# Altium footprint library NJVMJD41CT4G.PcbLib: 3 footprints
Each footprint in its own frame and in the unit in brackets; x right, y up, seen from the top. Pads: shape width x height; smd on the part's side, far side on the other; paste and mask are expansions set on the pad; w line width, h text height; cw(c..) or ccw(c..) is an arc to the next point about the centre after c.
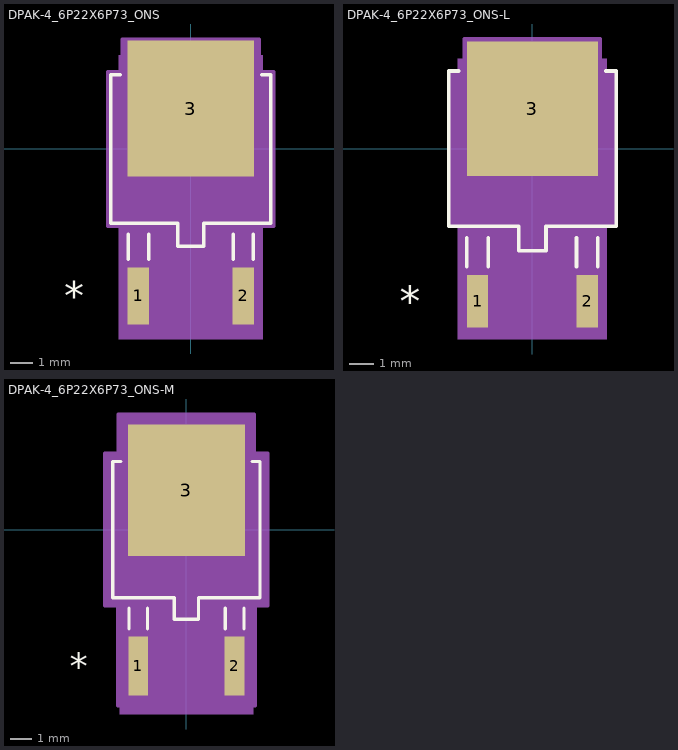
[diagram p0: the footprints below, top view; thin cyan lines are the x and y axes]

## DPAK-4_6P22X6P73_ONS [mil]
pads (3):
  rect 37x98 smd paste+0 mask+0: 1(-90,-252.5) 2(90,-252.5)
  rect 217x233 smd paste+0 mask+0: 3(0,69.5)
Top Overlay:
  lines w6: -121.6,127.5 -137.5,127.5 -137.5,-127.5 -22.5,-127.5 -22.5,-167.5 22.5,-167.5 22.5,-127.5 137.5,-127.5 137.5,127.5 121.6,127.5 ; -107.5,-189.5 -107.5,-146.5 ; -72.5,-189.5 -72.5,-146.5 ; 72.5,-189.5 72.5,-146.5 ; 107.5,-189.5 107.5,-146.5
  text "*" at -217.5,-277.5 h50
Mechanical 5:
  region: -123.5,161.5 123.5,161.5 123.5,-326.5 -123.5,-326.5
Mechanical 13:
  lines w1: -132.5,-122.5 132.5,-122.5 132.5,122.5 -132.5,122.5 -132.5,-122.5 ; -107.5,-287.5 -107.5,-122.5 -72.5,-122.5 -72.5,-287.5 -107.5,-287.5 ; -17.5,-162.5 -17.5,-122.5 17.5,-122.5 17.5,-162.5 -17.5,-162.5 ; 72.5,-287.5 72.5,-122.5 107.5,-122.5 107.5,-287.5 72.5,-287.5
  text "*" at -102.5,-137.5 h50
Mechanical 15:
  region: -142.5,-132.5 -142.5,132.5 -117.5,132.5 -117.5,189 117.5,189 117.5,132.5 142.5,132.5 142.5,-132.5 110,-132.5 110,-311.5 -110,-311.5 -110,-132.5
  lines w6: -142.5,-132.5 -142.5,132.5 -117.5,132.5 -117.5,189 117.5,189 117.5,132.5 142.5,132.5 142.5,-132.5 110,-132.5 110,-311.5 -110,-311.5 -110,-132.5 -142.5,-132.5
3D body "DPAK-4_6P22X6P73_ONS.step": height 94.09, standoff -2.01, extent -132.52,-287.52 132.52,165

## DPAK-4_6P22X6P73_ONS-L [mil]
pads (3):
  rect 35x86 smd paste+0 mask+0: 1(-90,-250.5) 2(90,-250.5)
  rect 215x221 smd paste+0 mask+0: 3(0,65.5)
Top Overlay:
  lines w6: -120.6,127.5 -137.5,127.5 -137.5,-127.5 -22.5,-127.5 -22.5,-167.5 22.5,-167.5 22.5,-127.5 137.5,-127.5 137.5,127.5 120.6,127.5 ; -107.5,-193.5 -107.5,-146.5 ; -72.5,-193.5 -72.5,-146.5 ; 72.5,-193.5 72.5,-146.5 ; 107.5,-193.5 107.5,-146.5
  text "*" at -217.5,-275.5 h50
Mechanical 5:
  region: -122.5,147.5 122.5,147.5 122.5,-312.5 -122.5,-312.5
Mechanical 13:
  lines w1: -132.5,-122.5 132.5,-122.5 132.5,122.5 -132.5,122.5 -132.5,-122.5 ; -107.5,-287.5 -107.5,-122.5 -72.5,-122.5 -72.5,-287.5 -107.5,-287.5 ; -17.5,-162.5 -17.5,-122.5 17.5,-122.5 17.5,-162.5 -17.5,-162.5 ; 72.5,-287.5 72.5,-122.5 107.5,-122.5 107.5,-287.5 72.5,-287.5
  text "*" at -102.5,-137.5 h50
Mechanical 15:
  region: -136.5,-126.5 -136.5,126.5 -111.5,126.5 -111.5,180 111.5,180 111.5,126.5 136.5,126.5 136.5,-126.5 111.5,-126.5 111.5,-297.5 -111.5,-297.5 -111.5,-126.5
  lines w6: -136.5,-126.5 -136.5,126.5 -111.5,126.5 -111.5,180 111.5,180 111.5,126.5 136.5,126.5 136.5,-126.5 111.5,-126.5 111.5,-297.5 -111.5,-297.5 -111.5,-126.5 -136.5,-126.5
3D body "DPAK-4_6P22X6P73_ONS.step": height 94.09, standoff -2.01, extent -132.52,-287.52 132.52,165

## DPAK-4_6P22X6P73_ONS-M [mil]
pads (3):
  rect 37x110 smd paste+0 mask+0: 1(-90,-254.5) 2(90,-254.5)
  rect 219x245 smd paste+0 mask+0: 3(0,73.5)
Top Overlay:
  lines w6: -122.6,127.5 -137.5,127.5 -137.5,-127.5 -22.5,-127.5 -22.5,-167.5 22.5,-167.5 22.5,-127.5 137.5,-127.5 137.5,127.5 122.6,127.5 ; -107.5,-185.5 -107.5,-146.5 ; -72.5,-185.5 -72.5,-146.5 ; 72.5,-185.5 72.5,-146.5 ; 107.5,-185.5 107.5,-146.5
  text "*" at -217.5,-279.5 h50
Mechanical 5:
  region: -124.5,179.5 124.5,179.5 124.5,-344.5 -124.5,-344.5
Mechanical 13:
  lines w1: -132.5,-122.5 132.5,-122.5 132.5,122.5 -132.5,122.5 -132.5,-122.5 ; -107.5,-287.5 -107.5,-122.5 -72.5,-122.5 -72.5,-287.5 -107.5,-287.5 ; -17.5,-162.5 -17.5,-122.5 17.5,-122.5 17.5,-162.5 -17.5,-162.5 ; 72.5,-287.5 72.5,-122.5 107.5,-122.5 107.5,-287.5 72.5,-287.5
  text "*" at -102.5,-137.5 h50
Mechanical 15:
  region: -152.5,-142.5 -152.5,142.5 -127.5,142.5 -127.5,216 127.5,216 127.5,142.5 152.5,142.5 152.5,-142.5 128.5,-142.5 128.5,-329.5 -128.5,-329.5 -128.5,-142.5
  lines w6: -152.5,-142.5 -152.5,142.5 -127.5,142.5 -127.5,216 127.5,216 127.5,142.5 152.5,142.5 152.5,-142.5 128.5,-142.5 128.5,-329.5 -128.5,-329.5 -128.5,-142.5 -152.5,-142.5
3D body "DPAK-4_6P22X6P73_ONS.step": height 94.09, standoff -2.01, extent -132.52,-287.52 132.52,165